# Altium schematic symbol library 1760510000.SchLib: 1 symbol
Pins are listed as number, name and electrical type; pins without a type are passive.

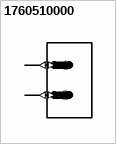
[diagram p0: symbol 1760510000]

## 1760510000
designator J?  (value not drawn)
Conn Terminal Block 2 POS 5.08mm Solder ST Thru-Hole 16A; MP: 1760510000; MF: Weidmuller; Package: None; Price: 0.43 USD; Availability: Good; Value: *
footprint 1760490000
pins: 1 (io), 2 (io)